# EAGLE library part BALUN (library CC11x)
Alternative item: http://uk.farnell.com/johanson-technology/2450bm15a0002e/balun-filter-2-45ghz/dp/1885515
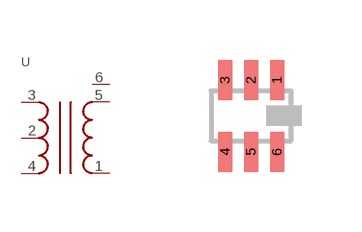
[diagram p4: symbol with the pads of 2450BM15A0015; footprint 2450BM15A0015]

Designator prefix -

## BALUN-2.4G (PARTNUMBER: 2341895; URL: http://uk.farnell.com/johanson-technology/2450bm15a0015e/balun-imp-matched-2-4-2-5ghz-50ohm/dp/2341895)  [2450BM15A0015]
1  1
2  2
3  3
4  4
5  5
6  6

## Footprint 2450BM15A0015 (pad centres in mm)
smd 0.35 x 1: 1 0.65,0.9; 2 0,0.9; 3 -0.65,0.9; 4 -0.65,-0.9; 5 0,-0.9; 6 0.65,-0.9